# EAGLE library part TMS320F28035 (library piccoli)
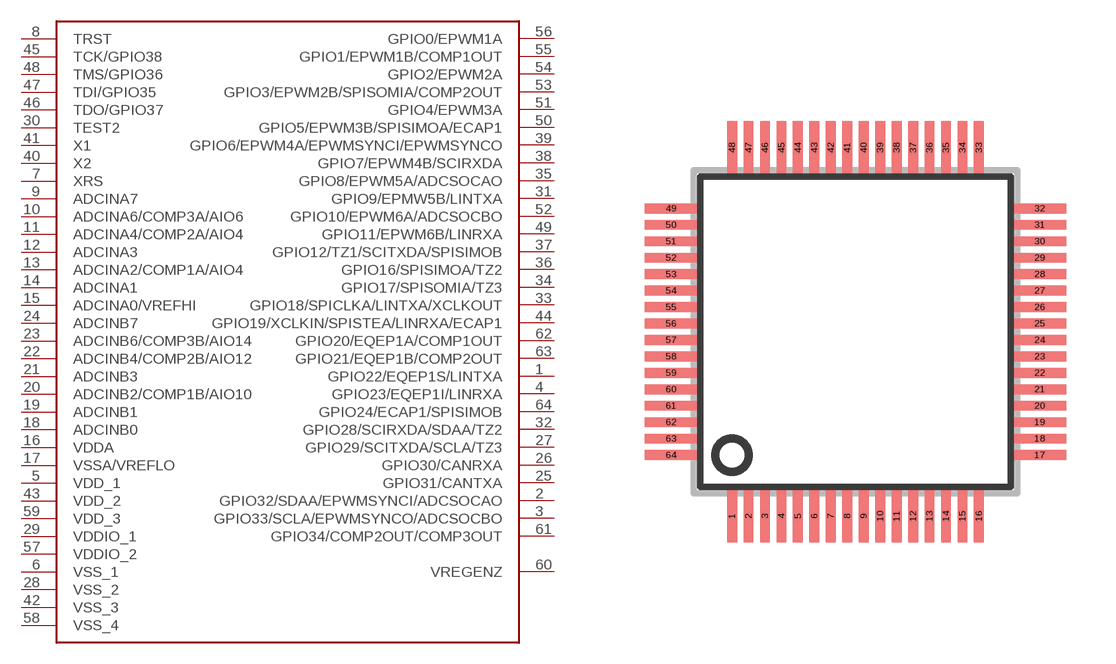
[diagram p2: symbol with the pads of S-PQFP-G64; footprint S-PQFP-G64]

Designator prefix -

## TMS320F28035  [S-PQFP-G64]
1  GPIO22/EQEP1S/LINTXA
2  GPIO32/SDAA/EPWMSYNCI/ADCSOCAO
3  GPIO33/SCLA/EPWMSYNCO/ADCSOCBO
4  GPIO23/EQEP1I/LINRXA
5  VDD_1
6  VSS_1
7  XRS
8  TRST
9  ADCINA7
10  ADCINA6/COMP3A/AIO6
11  ADCINA4/COMP2A/AIO4
12  ADCINA3
13  ADCINA2/COMP1A/AIO4
14  ADCINA1
15  ADCINA0/VREFHI
16  VDDA
17  VSSA/VREFLO
18  ADCINB0
19  ADCINB1
20  ADCINB2/COMP1B/AIO10
21  ADCINB3
22  ADCINB4/COMP2B/AIO12
23  ADCINB6/COMP3B/AIO14
24  ADCINB7
25  GPIO31/CANTXA
26  GPIO30/CANRXA
27  GPIO29/SCITXDA/SCLA/TZ3
28  VSS_2
29  VDDIO_1
30  TEST2
31  GPIO9/EPMW5B/LINTXA
32  GPIO28/SCIRXDA/SDAA/TZ2
33  GPIO18/SPICLKA/LINTXA/XCLKOUT
34  GPIO17/SPISOMIA/TZ3
35  GPIO8/EPWM5A/ADCSOCAO
36  GPIO16/SPISIMOA/TZ2
37  GPIO12/TZ1/SCITXDA/SPISIMOB
38  GPIO7/EPWM4B/SCIRXDA
39  GPIO6/EPWM4A/EPWMSYNCI/EPWMSYNCO
40  X2
41  X1
42  VSS_3
43  VDD_2
44  GPIO19/XCLKIN/SPISTEA/LINRXA/ECAP1
45  TCK/GPIO38
46  TDO/GPIO37
47  TDI/GPIO35
48  TMS/GPIO36
49  GPIO11/EPWM6B/LINRXA
50  GPIO5/EPWM3B/SPISIMOA/ECAP1
51  GPIO4/EPWM3A
52  GPIO10/EPWM6A/ADCSOCBO
53  GPIO3/EPWM2B/SPISOMIA/COMP2OUT
54  GPIO2/EPWM2A
55  GPIO1/EPWM1B/COMP1OUT
56  GPIO0/EPWM1A
57  VDDIO_2
58  VSS_4
59  VDD_3
60  VREGENZ
61  GPIO34/COMP2OUT/COMP3OUT
62  GPIO20/EQEP1A/COMP1OUT
63  GPIO21/EQEP1B/COMP2OUT
64  GPIO24/ECAP1/SPISIMOB

## Footprint S-PQFP-G64 (pad centres in mm)
smd 0.3 x 1.6: 1 -3.85,-5.6; 2 -3.35,-5.6; 3 -2.85,-5.6; 4 -2.35,-5.6; 5 -1.85,-5.6; 6 -1.35,-5.6; 7 -0.85,-5.6; 8 -0.35,-5.6; 9 0.15,-5.6; 10 0.65,-5.6; 11 1.15,-5.6; 12 1.65,-5.6; 13 2.15,-5.6; 14 2.65,-5.6; 15 3.15,-5.6; 16 3.65,-5.6; 33 3.65,5.6; 34 3.15,5.6; 35 2.65,5.6; 36 2.15,5.6; 37 1.65,5.6; 38 1.15,5.6; 39 0.65,5.6; 40 0.15,5.6; 41 -0.35,5.6; 42 -0.85,5.6; 43 -1.35,5.6; 44 -1.85,5.6; 45 -2.35,5.6; 46 -2.85,5.6; 47 -3.35,5.6; 48 -3.85,5.6
smd 1.6 x 0.3: 17 5.5,-3.75; 18 5.5,-3.25; 19 5.5,-2.75; 20 5.5,-2.25; 21 5.5,-1.75; 22 5.5,-1.25; 23 5.5,-0.75; 24 5.5,-0.25; 25 5.5,0.25; 26 5.5,0.75; 27 5.5,1.25; 28 5.5,1.75; 29 5.5,2.25; 30 5.5,2.75; 31 5.5,3.25; 32 5.5,3.75; 49 -5.7,3.75; 50 -5.7,3.25; 51 -5.7,2.75; 52 -5.7,2.25; 53 -5.7,1.75; 54 -5.7,1.25; 55 -5.7,0.75; 56 -5.7,0.25; 57 -5.7,-0.25; 58 -5.7,-0.75; 59 -5.7,-1.25; 60 -5.7,-1.75; 61 -5.7,-2.25; 62 -5.7,-2.75; 63 -5.7,-3.25; 64 -5.7,-3.75